# Altium footprint library PUSHB.PcbLib: 1 footprints
Each footprint in its own frame and in the unit in brackets; x right, y up, seen from the top. Pads: shape width x height; smd on the part's side, far side on the other; paste and mask are expansions set on the pad; w line width, h text height; cw(c..) or ccw(c..) is an arc to the next point about the centre after c.
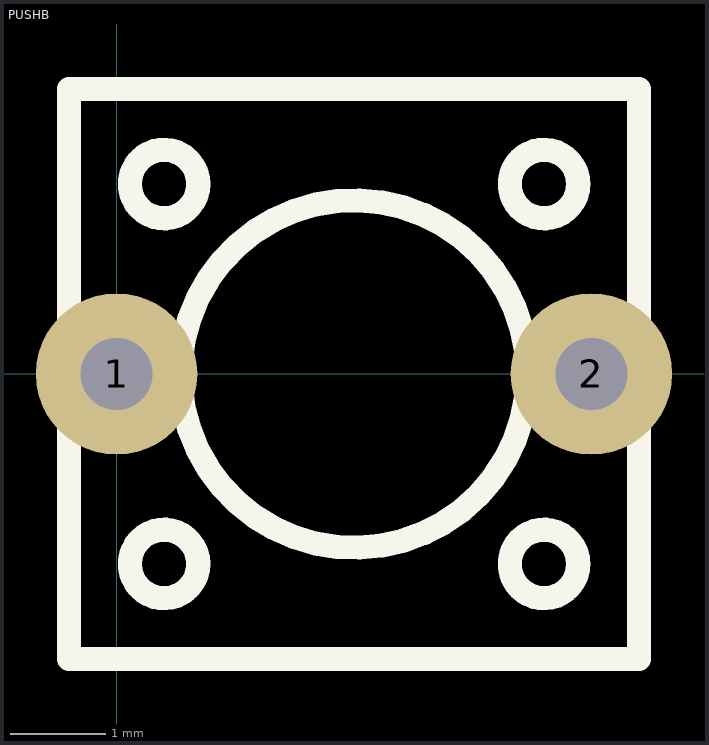
[diagram p0: the footprint, top view; thin cyan lines are the x and y axes]

## PUSHB [mm]
pads (2):
  round 1.7 hole 0.762: 1(0,0) 2(5,0)
Top Overlay:
  circle w0.254: c0.5,-2 r0.361
  circle w0.254: c0.5,2 r0.361
  circle w0.254: c4.5,2 r0.361
  circle w0.254: c4.5,-2 r0.361
  circle w0.254: c2.5,0 r1.829
  lines w0.254: -0.5,3 -0.5,-3 5.5,-3 5.5,3 ; -0.5,3 5.5,3 ; -0.5,3 5.5,3